# Altium footprint library Seeed-OPL-Capacitor.PCBLIB: 31 footprints (part 2 of 2)
Each footprint in its own frame and in the unit in brackets; x right, y up, seen from the top. Pads: shape width x height; smd on the part's side, far side on the other; paste and mask are expansions set on the pad; w line width, h text height; cw(c..) or ccw(c..) is an arc to the next point about the centre after c.
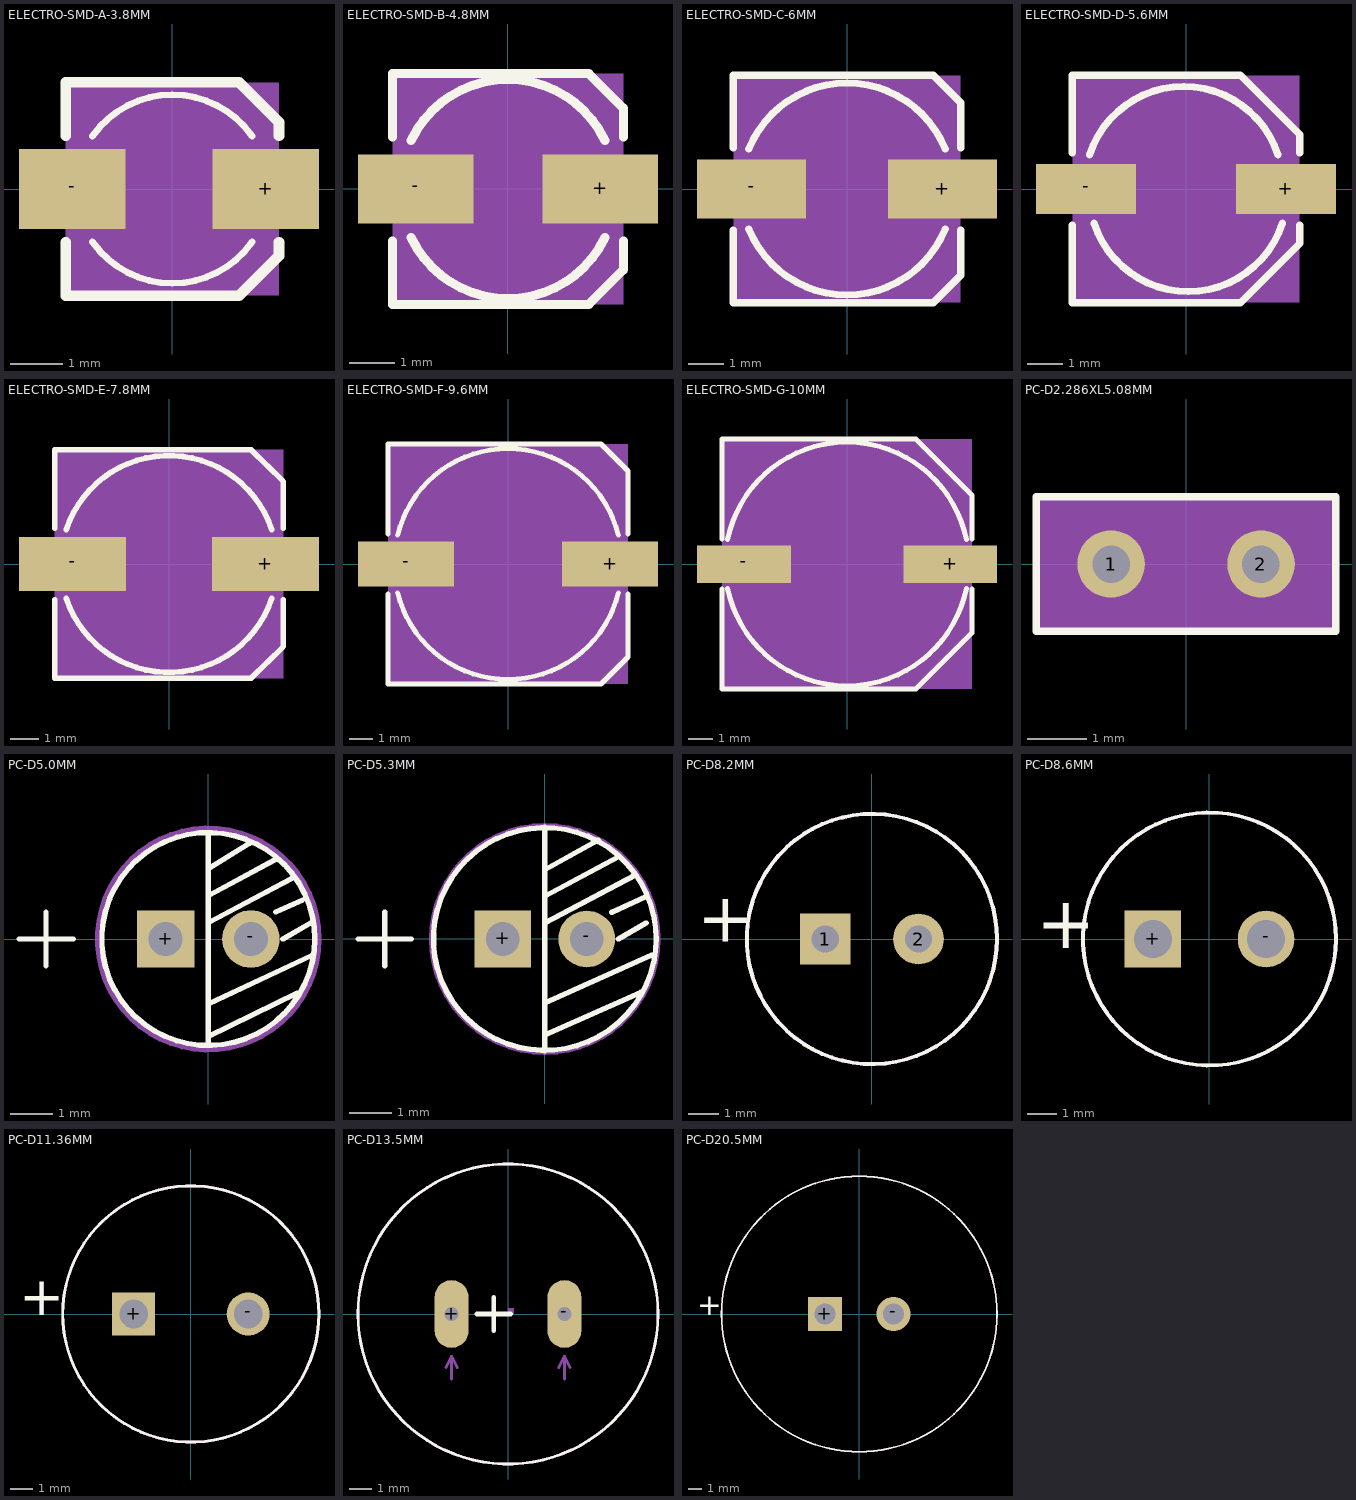
[diagram p1: the footprints below, top view; thin cyan lines are the x and y axes]

## ELECTRO-SMD-A-3.8MM [mil]
pads (2):
  rect 80x60 smd: +(70,0) -(-75,0)
Top Overlay:
  lines w5: -60,-39.5 ccw(c0,2.45) 60,-39.5 ; -60,39.5 cw(c0,-2.45) 60,39.5
  lines w8: -80,-40 -80,-80 50,-80 80,-50 80,-40 ; -80,40 -80,80 50,80 80,50 80,40
Mechanical 27:
  rectangle: -80,-80 80,80

## ELECTRO-SMD-B-4.8MM [mil]
pads (2):
  rect 100x60 smd: +(80,0) -(-80,0)
Top Overlay:
  lines w8: -100,-45 -100,-100 70,-100 100,-70 100,-45 ; -100,45 -100,100 70,100 100,70 100,45 ; -84,-42 ccw(c0,-1.98) 84,-42 ; -84,42 cw(c0,1.98) 84,42
Mechanical 27:
  rectangle: -100,-100 100,100

## ELECTRO-SMD-C-6MM [mil]
pads (2):
  rect 120x65 smd: +(105,0) -(-105,0)
Top Overlay:
  lines w8: -125,-45 -125,-125 95,-125 125,-95 125,-45 ; -125,45 -125,125 95,125 125,95 125,45 ; -108,-44 ccw(c0,0) 108,-44 ; -108,44 cw(c0,0) 108,44
Mechanical 27:
  rectangle: -125,-125 125,125

## ELECTRO-SMD-D-5.6MM [mil]
pads (2):
  rect 110x55 smd: +(110,0) -(-110,0)
Top Overlay:
  lines w8: -125,-40 -125,-125 60,-125 125,-60 125,-40 ; -125,40 -125,125 60,125 125,60 125,40 ; -106.14,37.4 cw(c-2.5,3.94) 101.14,37.4 ; -101.14,-37.4 ccw(c2.5,-3.94) 106.14,-37.4
Mechanical 27:
  rectangle: -125,-125 125,125

## ELECTRO-SMD-E-7.8MM [mil]
pads (2):
  rect 150x75 smd: +(135,0) -(-135,0)
Top Overlay:
  lines w8: -160,-50 -160,-160 115,-160 159.45,-116.14 ; -160,50 -160,160 115,160 159.45,116.14 ; -144,-48 ccw(c0,0) 144,-48 ; -144,48 cw(c0,0) 144,48 ; 160,-115 160,-50 ; 160,50 160,115
Mechanical 27:
  rectangle: -160,-160 160,160

## ELECTRO-SMD-F-9.6MM [mil]
pads (2):
  rect 160x75 smd: +(170,0) -(-170,0)
Top Overlay:
  lines w8: -200,-50 -200,-200 155,-200 200,-155 200,-50 ; -200,50 -200,200 155,200 200,155 200,50 ; -184,-48 ccw(c0,-3) 184,-48 ; -184,48 cw(c0,3) 184,48
Mechanical 27:
  rectangle: -200,-200 200,200

## ELECTRO-SMD-G-10MM [mil]
pads (2):
  rect 150x60 smd: +(165,0) -(-165,0)
Top Overlay:
  lines w8: -200,-40 -200,-200 110,-200 200,-110 200,-40 ; -200,40 -200,200 110,200 200,110 200,40 ; -190.94,-39.37 ccw(c0,0) 190.94,-39.37 ; -190.94,39.37 cw(c0,0) 190.94,39.37
Mechanical 27:
  rectangle: -200,-200 200,200

## PC-D2.286XL5.08MM [mil]
pads (2):
  round 45 hole 25: 1(-50,0) 2(50,0)
Top Overlay:
  lines w5: -100,-45 100,-45 100,45 -100,45 -100,-45
Mechanical 27:
  rectangle: -100,-45 100,45

## PC-D5.0MM [mm]
pads (2):
  rect 1.35x1.35 hole 0.8: +(-1,0)
  round 1.35 hole 0.8: -(1,0)
Top Overlay:
  circle w0.127: c0,0 r2.5
  lines w0.127: -4.445,0 -3.81,0 ; -3.81,-0.635 -3.81,0 ; -3.81,0.635 -3.81,0 ; -3.175,0 -3.81,0 ; 0,-2.5 0,-2.286 ; 0,2.5 0,1.651 ; 0.97,2.249 0,1.651 ; 1.578,1.868 0,1.016 ; 1.587,0.635 2.213,0.916 ; 1.75,0 2.413,0.381 ; 1.959,1.424 0,0.381 ; 2.086,-1.27 0,-2.286 ; 2.44,-0.381 0,-1.524 ; 0,-2.286 0,-1.524 ; 0,-1.524 0,0.381 ; 0,0.381 0,1.016 ; 0,1.016 0,1.651
Mechanical 27:
  circle w0.127: c0,0 r2.6

## PC-D5.3MM [mm]
pads (2):
  rect 1.35x1.35 hole 0.8: +(-1,0)
  round 1.35 hole 0.8: -(1,0)
Top Overlay:
  circle w0.127: c0,0 r2.65
  lines w0.127: -4.445,0 -3.81,0 ; -3.81,-0.635 -3.81,0 ; -3.81,0.635 -3.81,0 ; -3.175,0 -3.81,0 ; 0,-2.667 0,-2.286 ; 0,2.667 0,1.651 ; 1.27,2.349 0,1.651 ; 1.587,0.635 2.413,1.016 ; 1.75,0 2.413,0.381 ; 1.778,1.968 0,1.016 ; 2.159,1.524 0,0.381 ; 2.286,-1.27 0,-2.286 ; 2.54,-0.381 0,-1.524 ; 0,-2.286 0,-1.524 ; 0,-1.524 0,0.381 ; 0,0.381 0,1.016 ; 0,1.016 0,1.651
Mechanical 27:
  circle w0.127: c0,0 r2.694

## PC-D8.2MM [mil]
pads (2):
  rect 65x65 hole 35: 1(-60,0)
  round 65 hole 35: 2(60,0)
Top Overlay:
  circle w5: c0,0 r161
  text "+" at -225,-25 h108.5
Mechanical 27:
  circle w5: c0,0 r161

## PC-D8.6MM [mil]
pads (2):
  rect 75x75 hole 50: +(-75,0)
  round 75 hole 50: -(75,0)
Top Overlay:
  circle w5: c0,0 r167.7
  text "+" at -230,-35 h117.8
Mechanical 27:
  circle w5: c0,0 r167.7

## PC-D11.36MM [mil]
pads (2):
  rect 75x75 hole 50: +(-100,0)
  round 75 hole 50: -(100,0)
Top Overlay:
  circle w5: c0,0 r223.61
  text "+" at -300,-25 h117.8
Mechanical 27:
  circle w5: c0,0 r223.61

## PC-D13.5MM [mil]
pads (2):
  oval 60x120 hole 25: +(-100,0) -(100,0)
Top Overlay:
  circle w5: c0,0 r265.75
  lines w8: -55,0 5,0 ; -25,-30 -25,30
Mechanical 11:
  region: 0,0 10,0 10,10 0,10
  region: 0,0 10,0 10,10 0,10
  lines w5: -110,-95 -100,-75 ; -100,-115 -100,-75 ; -90,-95 -100,-75 ; 90,-95 100,-75 ; 100,-115 100,-75 ; 110,-95 100,-75
  text "2 Slot drills with copper" at -250,-150 h37.2
Mechanical 27:
  circle w5: c0,0 r265.75

## PC-D20.5MM [mil]
pads (2):
  rect 100.39x100.39 hole 61.02: +(-100.39,0)
  round 100.39 hole 61.02: -(100.39,0)
Top Overlay:
  circle w5: c0,0 r403.54
  text "+" at -475,-25 h108.5
Mechanical 27:
  circle w5: c0,0 r403.54